# Altium schematic symbol library schlib_ttl_net_ch9120.SchLib: 3 symbols
Pins are listed as number, name and electrical type; pins without a type are passive.

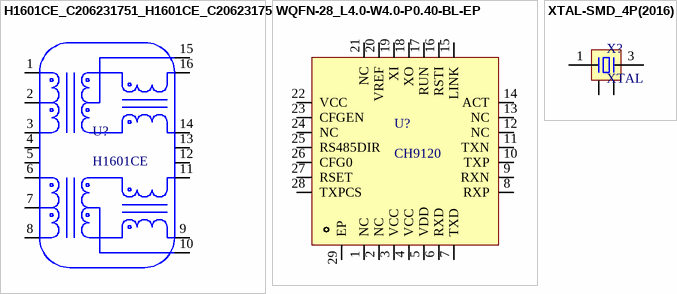
[diagram p0: symbols H1601CE_C206231751_H1601CE_C20623175 to XTAL-SMD_4P(2016)]

## H1601CE_C206231751_H1601CE_C20623175
designator U?, comment H1601CE
网口变压器
footprint XFMR-SMD_16P-L12.7-W6.8-P1.27-LS9.5
pins: 1, 2, 3, 4, 5, 6, 7, 8, 9, 10, 11, 12, 13, 14, 15, 16

## WQFN-28_L4.0-W4.0-P0.40-BL-EP
designator U?, comment CH9120
以太网收发器
footprint WQFN-28_L4.0-W4.0-P0.40-BL-EP
pins: 1 NC, 2 NC, 3 VCC, 4 VCC, 5 VDD, 6 RXD, 7 TXD, 8 RXP, 9 RXN, 10 TXP, 11 TXN, 12 NC, 13 NC, 14 ACT, 15 LINK, 16 RSTI, 17 RUN, 18 XO, 19 XI, 20 VREF, 21 NC, 22 VCC, 23 CFGEN, 24 NC, 25 RS485DIR, 26 CFG0, 27 RSET, 28 TXPCS, 29 EP

## XTAL-SMD_4P(2016)
designator X?, comment XTAL
无源晶振
footprint XTAL-SMD_4P-2016
pins: 1, 2, 3, 4